# Altium integrated library BJT-Power.IntLib: 73 symbols
Pins are listed as number, name and electrical type; pins without a type are passive.

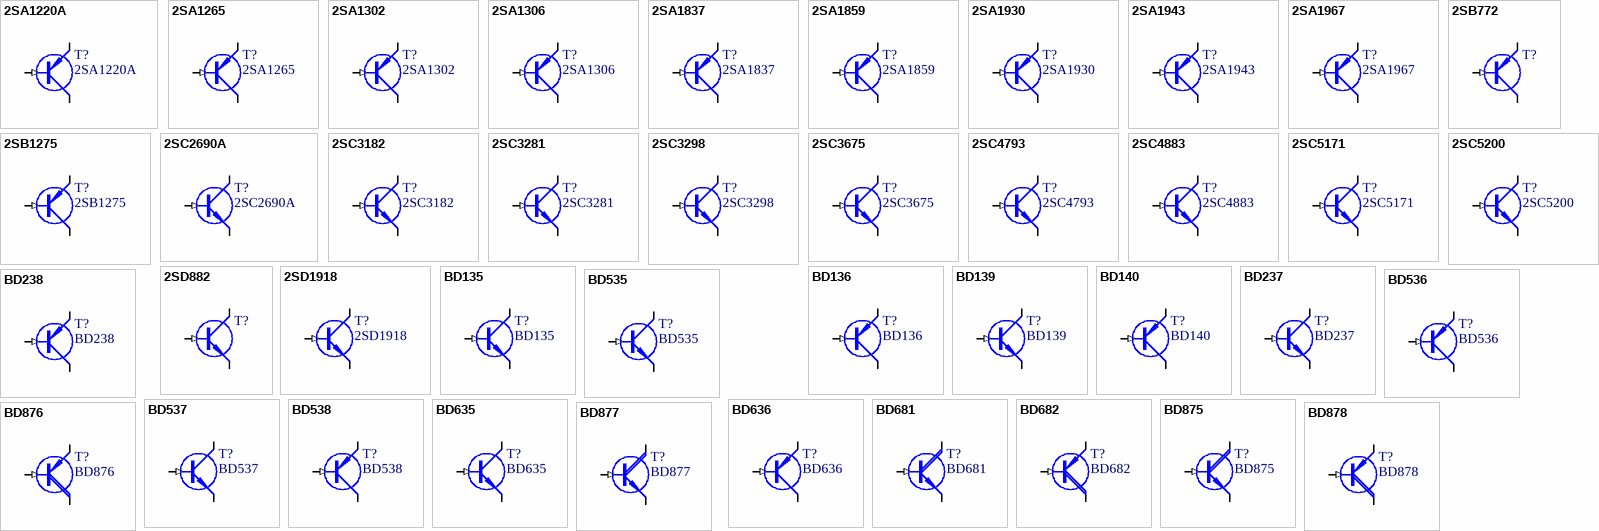
[diagram p0: symbols 2SA1220A to BD878]

## 2SA1220A
designator T?
160V 1.2A 175MHz 26pF; Price: 0.5
footprint TO126-10
footprint TO126-RA400
simulation model QKSA1220A (Model Description)
signal-integrity model Q (Model Description)
pins: 1 E (oe), 2 C (oc), 3 B (in)

## 2SA1265
designator T?
140V 10A 30MHz; Price: 1.2
footprint TO247-RA-800
signal-integrity model Q (Model Description)
pins: 1 B (in), 2 C (oc), 3 E (oe)

## 2SA1302
designator T?
200V 15A 30MHz
footprint TO220-10
simulation model Q2SA1302 (Model Description)
signal-integrity model Q (Model Description)
pins: 1 B (in), 2 C (oc), 3 E (oe)

## 2SA1306
designator T?
160V 1.5A 100MHz; Price: 1
footprint TO220-10
simulation model Q2SA1306 (Model Description)
signal-integrity model Q (Model Description)
pins: 1 B (in), 2 C (oc), 3 E (oe)

## 2SA1837
designator T?
230V 1A 70MHz 30pF; Price: 0.94
footprint TO220-RB-650
simulation model Q2SA1837 (Model Description)
signal-integrity model Q (Model Description)
pins: 1 B (in), 2 C (oc), 3 E (oe)

## 2SA1859
designator T?
150V 2A 60MHz 30pF; Price: 1.08
footprint TO220-RB-650
simulation model Q2SA1859A (Model Description)
signal-integrity model Q (Model Description)
pins: 1 B (in), 2 C (oc), 3 E (oe)

## 2SA1930
designator T?
180V 2A 200MHz 26p; Price: 1
footprint TO220-10
simulation model 2SA1930 (Model Description)
signal-integrity model Q (Model Description)
pins: 1 B (in), 2 C (oc), 3 E (oe)

## 2SA1943
designator T?
250V 15A 30MHz; Price: 8
footprint TO264-RA-1000a
simulation model FJL4215 (Model Description)
signal-integrity model Q (Model Description)
pins: 1 B (in), 2 C (oc), 3 E (oe)

## 2SA1967
designator T?
900V 0.1A 6MHz 2.2p; Price: 1
footprint TO220-10
simulation model 2SA1930 (Model Description)
signal-integrity model Q (Model Description)
pins: 1 B (in), 2 C (oc), 3 E (oe)

## 2SB772
designator T?
30V 3A 100MHz; Price: 0.2
footprint TO126-10
footprint TO126-RA400
simulation model Q2SB772 (Model Description)
signal-integrity model Q (Model Description)
pins: 1 E (oe), 2 C (oc), 3 B (in)

## 2SB1275
designator T?
160V 1.5A 50MHz; Price: 0.5
simulation model Q2SB1275 (Model Description)
footprint TO252AA
signal-integrity model Q (Model Description)
pins: 1 B (in), 2 C (oc), 3 E (oe)

## 2SC2690A
designator T?
160V 1.2A 175MHz 19pF; Price: 1
footprint TO126-RA400
simulation model QKSC2690A-O (Model Description)
signal-integrity model Q (Model Description)
pins: 1 E (oe), 2 C (oc), 3 B (in)

## 2SC3182
designator T?
140V 10A 30MHz; Price: 1.6
footprint TO247-RA-800
signal-integrity model Q (Model Description)
pins: 1 B (in), 2 C (oc), 3 E (oe)

## 2SC3281
designator T?
200V 15A 30MHz; Price: 4
footprint TO220-RB-650
simulation model Q2SC3281 (Model Description)
signal-integrity model Q (Model Description)
pins: 1 B (in), 2 C (oc), 3 E (oe)

## 2SC3298
designator T?
160V 1.5A 100MHz; Price: 1
footprint TO220-RB-650
signal-integrity model Q (Model Description)
pins: 1 B (in), 2 C (oc), 3 E (oe)

## 2SC3675
designator T?
900V 0.1A 6MHz 2.8pF; Price: 0.7
footprint TO220-RB-650
signal-integrity model Q (Model Description)
pins: 1 B (in), 2 C (oc), 3 E (oe)

## 2SC4793
designator T?
230V 1A 100MHz 20pF; Price: 0.7
footprint TO220-RB-650
simulation model Q2SC4793 (Model Description)
signal-integrity model Q (Model Description)
pins: 1 B (in), 2 C (oc), 3 E (oe)

## 2SC4883
designator T?
150V 2A 120MHz 30pF; Price: 1.05
footprint TO220-RB-650
simulation model Q2SC4883A (Model Description)
signal-integrity model Q (Model Description)
pins: 1 B (in), 2 C (oc), 3 E (oe)

## 2SC5171
designator T?
180V 2A 200MHz 16pF; Price: 1.2
footprint TO220-RB-650
simulation model 2SC5171 (Model Description)
signal-integrity model Q (Model Description)
pins: 1 B (in), 2 C (oc), 3 E (oe)

## 2SC5200
designator T?
250V 15A 30MHz; Price: 8
footprint TO264-RA-1000a
simulation model KSC5200 (Model Description)
signal-integrity model Q (Model Description)
pins: 1 B (in), 2 C (oc), 3 E (oe)

## 2SD882
designator T?
30V 3A 100MHz; Price: 0.2
footprint TO126-10
footprint TO126-RA400
simulation model Q2SD882 (Model Description)
signal-integrity model Q (Model Description)
pins: 1 E (oe), 2 C (oc), 3 B (in)

## 2SD1918
designator T?
160V 1.5A 80MHz; Price: 0.55
footprint TO252AA
simulation model Q2SD1918 (Model Description)
signal-integrity model Q (Model Description)
pins: 1 B (in), 2 C (oc), 3 E (oe)

## BD135
designator T?
45V 1.5A 50MHz; Price: 0.25
footprint TO126-10
footprint TO126-RA400
simulation model BD135 (Model Description)
signal-integrity model Q (Model Description)
pins: 1 E (oe), 2 C (oc), 3 B (in)

## BD136
designator T?
45V 1.5A 50MHz; Price: 0.25
footprint TO126-10
footprint TO126-RA400
simulation model BD136 (Model Description)
signal-integrity model Q (Model Description)
pins: 1 E (oe), 2 C (oc), 3 B (in)

## BD139
designator T?
80V 1.5A 50MHz; Price: 0.25
footprint TO126-10
footprint TO126-RA400
simulation model BD135 (Model Description)
signal-integrity model Q (Model Description)
pins: 1 E (oe), 2 C (oc), 3 B (in)

## BD140
designator T?
80V 1.5A 50MHz; Price: 0.25
footprint TO126-10
footprint TO126-RA400
simulation model BD136 (Model Description)
signal-integrity model Q (Model Description)
pins: 1 E (oe), 2 B (in), 3 C (oc)

## BD237
designator T?
80V 2A 3MHz; Price: 0.37
footprint TO126-10
footprint TO126-RA400
simulation model BD237 (Model Description)
signal-integrity model Q (Model Description)
pins: 1 E (oe), 2 C (oc), 3 B (in)

## BD238
designator T?
80V 2A 3MHz; Price: 0.37
footprint TO126-10
footprint TO126-RA400
simulation model BD238 (Model Description)
signal-integrity model Q (Model Description)
pins: 1 E (oe), 2 C (oc), 3 B (in)

## BD535
designator T?
60V 4A 3MHz
footprint TO220-RB-650
simulation model BD535 (Model Description)
signal-integrity model Q (Model Description)
pins: 1 B (in), 2 C (oc), 3 E (oe)

## BD536
designator T?
60V 4A 3MHz
footprint TO220-RB-650
simulation model BD536 (Model Description)
signal-integrity model Q (Model Description)
pins: 1 B (in), 2 C (oc), 3 E (oe)

## BD537
designator T?
80V 4A 3MHz
footprint TO220-RB-650
simulation model BD537 (Model Description)
signal-integrity model Q (Model Description)
pins: 1 B (in), 2 C (oc), 3 E (oe)

## BD538
designator T?
80V 4A 3MHz
footprint TO220-RB-650
simulation model BD538 (Model Description)
signal-integrity model Q (Model Description)
pins: 1 B (in), 2 C (oc), 3 E (oe)

## BD635
designator T?
60V 8A 3MHz
footprint TO220-RB-650
simulation model BD635 (Model Description)
signal-integrity model Q (Model Description)
pins: 1 B (in), 2 C (oc), 3 E (oe)

## BD636
designator T?
60V 8A 3MHz
footprint TO220-RB-650
simulation model BD636 (Model Description)
signal-integrity model Q (Model Description)
pins: 1 B (in), 2 C (oc), 3 E (oe)

## BD681
designator T?
100V 4A
footprint TO126-RB400
signal-integrity model Q (Model Description)
simulation model BD681 (Model Description)
pins: 1 E (oe), 2 C (oc), 3 B (in)

## BD682
designator T?
100V 4A
footprint TO126-RB400
signal-integrity model Q (Model Description)
simulation model BD682 (Model Description)
pins: 1 E (oe), 2 C (oc), 3 B (in)

## BD875
designator T?
45V 1A 200MHz
footprint TO126-RB400
signal-integrity model Q (Model Description)
pins: 1 E (oe), 2 C (oc), 3 B (in)

## BD876
designator T?
45V 1A 200MHz
footprint TO126-RB400
signal-integrity model Q (Model Description)
pins: 1 E (oe), 2 C (oc), 3 B (in)

## BD877
designator T?
60V 1A 200MHz
footprint TO126-RB400
signal-integrity model Q (Model Description)
pins: 1 E (oe), 2 C (oc), 3 B (in)

## BD878
designator T?
60V 1A 200MHz
footprint TO126-RB400
signal-integrity model Q (Model Description)
pins: 1 E (oe), 2 C (oc), 3 B (in)

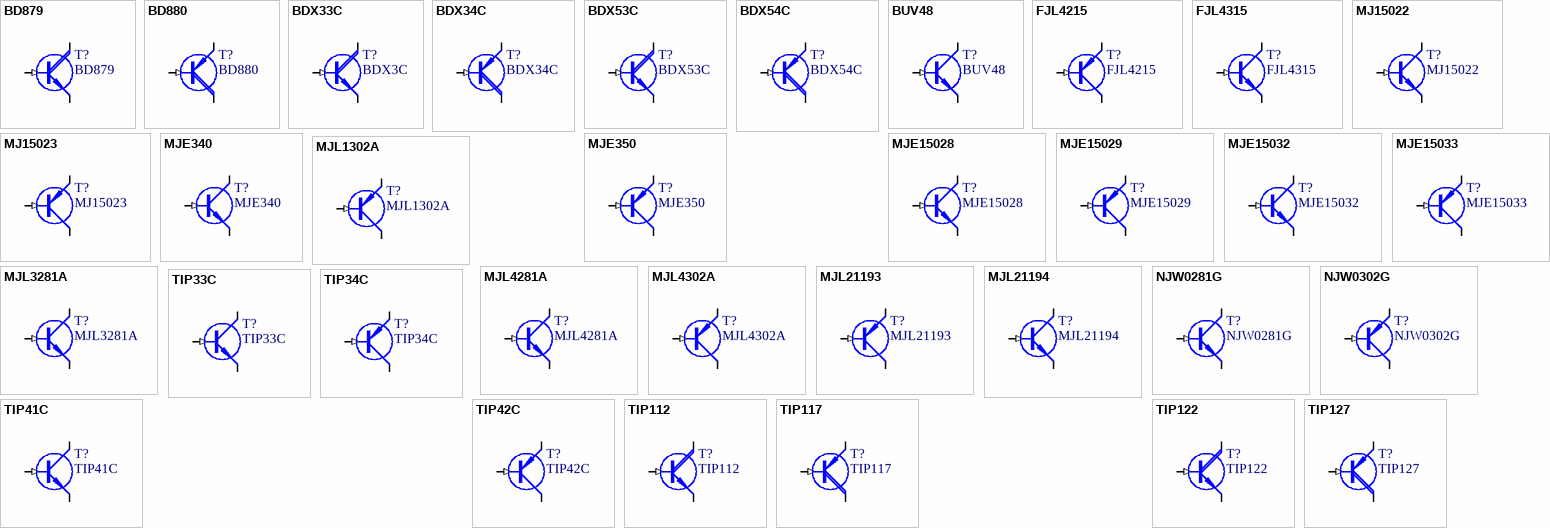
[diagram p1: symbols BD879 to TIP127]

## BD879
designator T?
80V 1A 200MHz
footprint TO126-RB400
signal-integrity model Q (Model Description)
pins: 1 E (oe), 2 C (oc), 3 B (in)

## BD880
designator T?
80V 1A 200MHz
footprint TO126-RB400
signal-integrity model Q (Model Description)
pins: 1 E (oe), 2 C (oc), 3 B (in)

## BDX33C
designator T?, comment BDX3C
100V 10A 4Mhz 300pF h21-750; Price: 0.45
footprint TO220-10
signal-integrity model Q (Model Description)
simulation model BDX33C (Model Description)
pins: 1 B (in), 2 C (oc), 3 E (oe)

## BDX34C
designator T?
100V 10A 4Mhz 200pF h21-750; Price: 0.45
footprint TO220-10
signal-integrity model Q (Model Description)
simulation model BDX34C (Model Description)
pins: 1 B (in), 2 C (oc), 3 E (oe)

## BDX53C
designator T?
100V 8A 4Mhz 300pF h21-750; Price: 0.45
footprint TO220-10
signal-integrity model Q (Model Description)
simulation model BDX53C (Model Description)
pins: 1 B (in), 2 C (oc), 3 E (oe)

## BDX54C
designator T?
100V 8A 4Mhz 200pF h21-750; Price: 0.51
footprint TO220-10
signal-integrity model Q (Model Description)
simulation model BDX54C (Model Description)
pins: 1 B (in), 2 C (oc), 3 E (oe)

## BUV48
designator T?
850V 15A 10MHz 150pF; Price: 5.1
footprint TO247-h26
signal-integrity model Q (Model Description)
pins: 1 B (in), 2 C (oc), 3 E (oe)

## FJL4215
designator T?
230V 17A 30MHz
footprint TO264-RA-1000a
simulation model FJL4215 (Model Description)
signal-integrity model Q (Model Description)
pins: 1 B (in), 2 C (oc), 3 E (oe)

## FJL4315
designator T?
230V 17A 30MHz
footprint TO264-RA-1000a
simulation model FJL4315 (Model Description)
signal-integrity model Q (Model Description)
pins: 1 B (in), 2 C (oc), 3 E (oe)

## MJ15022
designator T?
200V 16A 3MHz; Price: 2
footprint TO220-RB-650
simulation model MJ15022 (Model Description)
signal-integrity model Q (Model Description)
pins: 1 B (in), 2 C (oc), 3 E (oe)

## MJ15023
designator T?
200V 16A 4MHz; Price: 2
footprint TO220-RB-650
simulation model MJ15023 (Model Description)
signal-integrity model Q (Model Description)
pins: 1 B (in), 2 C (oc), 3 E (oe)

## MJE340
designator T?
300V 0.5A; Price: 0.34
footprint TO126-RA400
footprint TO126-10
simulation model KSE340 (Model Description)
signal-integrity model Q (Model Description)
pins: 1 E (oe), 2 C (oc), 3 B (in)

## MJE350
designator T?
300V 0.5A; Price: 0.34
footprint TO126-RA400
footprint TO126-10
simulation model KSE350 (Model Description)
signal-integrity model Q (Model Description)
pins: 1 E (oe), 2 C (oc), 3 B (in)

## MJE15028
designator T?
120V 8A; Price: 2
footprint TO220-RB-650
simulation model MJE15028 (Model Description)
signal-integrity model Q (Model Description)
pins: 1 B (in), 2 C (oc), 3 E (oe)

## MJE15029
designator T?
120V 8A; Price: 2
footprint TO220-RB-650
simulation model MJE15029 (Model Description)
signal-integrity model Q (Model Description)
pins: 1 B (in), 2 C (oc), 3 E (oe)

## MJE15032
designator T?
250V 8A; Price: 3
footprint TO220-RB-650
simulation model MJE15032 (Model Description)
signal-integrity model Q (Model Description)
pins: 1 B (in), 2 C (oc), 3 E (oe)

## MJE15033
designator T?
250V 8A; Price: 3
footprint TO220-RB-650
simulation model MJE15033 (Model Description)
signal-integrity model Q (Model Description)
pins: 1 B (in), 2 C (oc), 3 E (oe)

## MJL1302A
designator T?
200V 15A 30MHz
footprint TO247-RA-800
simulation model MJL1302A (Model Description)
signal-integrity model Q (Model Description)
pins: 1 B (in), 2 C (oc), 3 E (oe)

## MJL3281A
designator T?
200V 15A 30MHz; Price: 4
footprint TO247-RA-800
simulation model MJL3281A (Model Description)
signal-integrity model Q (Model Description)
pins: 1 B (in), 2 C (oc), 3 E (oe)

## MJL4281A
designator T?
350V 15A 35MHz; Price: 8
footprint TO264-RA-1000a
simulation model MJL4281A (Model Description)
signal-integrity model Q (Model Description)
pins: 1 B (in), 2 C (oc), 3 E (oe)

## MJL4302A
designator T?
350V 15A 35MHz
footprint TO264-RA-1000a
simulation model MJL4302A (Model Description)
signal-integrity model Q (Model Description)
pins: 1 B (in), 2 C (oc), 3 E (oe)

## MJL21193
designator T?
250V 16A 4MHz; Price: 8
footprint TO264-RA-1000a
simulation model MJL21193 (Model Description)
signal-integrity model Q (Model Description)
pins: 1 B (in), 2 C (oc), 3 E (oe)

## MJL21194
designator T?
250V 16A 4MHz; Price: 8
footprint TO264-RA-1000a
simulation model MJL21194 (Model Description)
signal-integrity model Q (Model Description)
pins: 1 B (in), 2 C (oc), 3 E (oe)

## NJW0281G
designator T?
250V 15A 30MHz; Price: 8
footprint TO247-RA-800
simulation model NJW0281G (Model Description)
signal-integrity model Q (Model Description)
pins: 1 B (in), 2 C (oc), 3 E (oe)

## NJW0302G
designator T?
250V 15A 30MHz; Price: 8
footprint TO247-RA-800
simulation model NJW0302G (Model Description)
signal-integrity model Q (Model Description)
pins: 1 B (in), 2 C (oc), 3 E (oe)

## TIP33C
designator T?
100V 10A 3MHz; Price: 4
footprint TO247-RA-800
simulation model TIP33C (Model Description)
signal-integrity model Q (Model Description)
pins: 1 B (in), 2 C (oc), 3 E (oe)

## TIP34C
designator T?
100V 10A 3MHz; Price: 8
footprint TO247-RA-800
simulation model TIP34C (Model Description)
signal-integrity model Q (Model Description)
pins: 1 B (in), 2 C (oc), 3 E (oe)

## TIP41C
designator T?
100V 6A 3MHz
footprint TO220-10
simulation model TIP41C (Model Description)
signal-integrity model Q (Model Description)
pins: 1 B (in), 2 C (oc), 3 E (oe)

## TIP42C
designator T?
100V 6A 3MHz
footprint TO220-10
simulation model TIP42C (Model Description)
signal-integrity model Q (Model Description)
pins: 1 B (in), 2 C (oc), 3 E (oe)

## TIP112
designator T?
100V 2A 4Mhz 100pF h21-1000
footprint TO220-10
signal-integrity model Q (Model Description)
pins: 1 B (in), 2 C (oc), 3 E (oe)

## TIP117
designator T?
100V 2A 4Mhz 200pF h21-1000
footprint TO220-10
signal-integrity model Q (Model Description)
simulation model TIP127 (Model Description)
pins: 1 B (in), 2 C (oc), 3 E (oe)

## TIP122
designator T?
100V 5A 4Mhz 200pF h21-750; Price: 0.38
footprint TO220-10
signal-integrity model Q (Model Description)
simulation model TIP122 (Model Description)
pins: 1 B (in), 2 C (oc), 3 E (oe)

## TIP127
designator T?
100V 5A 4Mhz 200pF h21-750; Price: 0.38
footprint TO220-10
signal-integrity model Q (Model Description)
simulation model TIP127 (Model Description)
pins: 1 B (in), 2 C (oc), 3 E (oe)